# EAGLE library part MAX1697U (library _RoweTel)
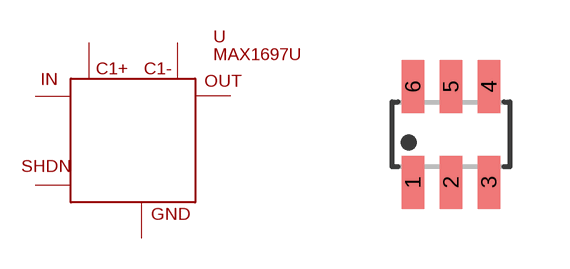
[diagram p36: symbol with the pads of SOT23-6L; footprint SOT23-6L]

Designator prefix U

## MAX1697U  [SOT23-6L]
1  1  pas
2  2  in
3  3  pas
4  4  in
5  5  in
6  6  pas

## Footprint SOT23-6L (pad centres in mm)
smd 0.56 x 1.33: 1 -0.95,-1.2; 2 0,-1.2; 3 0.95,-1.2; 4 0.95,1.2; 5 0,1.2; 6 -0.95,1.2